# Altium footprint library PCB - POWER INDUCTORS - WURTH WE-PD 1210.PcbLib: 1 footprints
Each footprint in its own frame and in the unit in brackets; x right, y up, seen from the top. Pads: shape width x height; smd on the part's side, far side on the other; paste and mask are expansions set on the pad; w line width, h text height; cw(c..) or ccw(c..) is an arc to the next point about the centre after c.
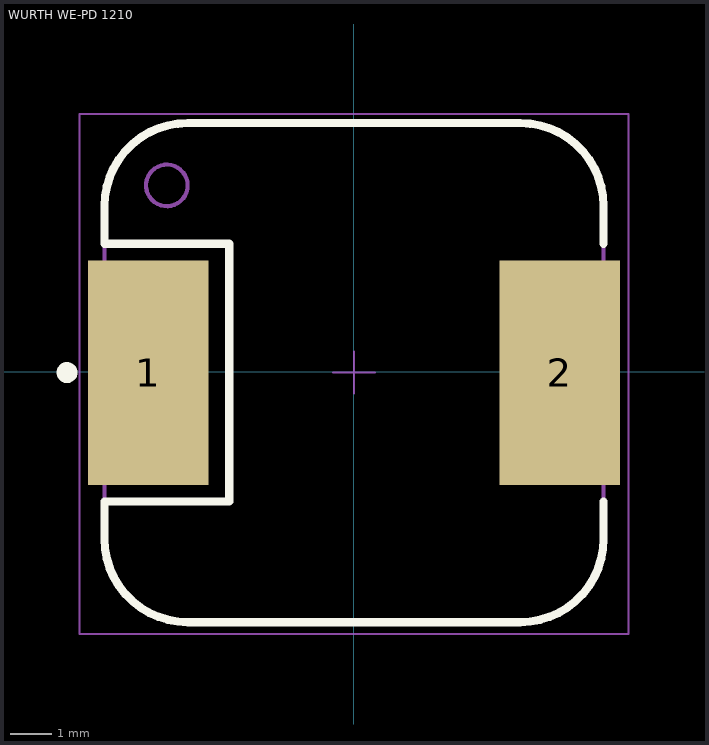
[diagram p0: the footprint, top view; thin cyan lines are the x and y axes]

## WURTH WE-PD 1210 [mm] "SMT Shielded Power Inductor, 2-leads, body 12x12mm"
height 10
pads (2):
  rect 2.9x5.4 smd: 1(-4.95,-0.016) 2(4.95,-0.016)
Top Overlay:
  circle w0.25: c-6.9,-0.016 r0.125
  lines w0.2: 6,-3.116 6,-4.016 cw(c4,-4.016) 4,-6.016 -4,-6.016 cw(c-4,-4.016) -6,-4.016 -6,-3.116 -3,-3.116 -3,3.084 -6,3.084 -6,3.984 cw(c-4,3.984) -4,5.984 4,5.984 cw(c4,3.984) 6,3.984 6,3.084
Top Assembly:
  circle w0.1: c-4.5,4.484 r0.5
  lines w0.05: -0.5,-0.016 0.5,-0.016 ; 0,-0.516 0,0.484
  lines w0.1: -6,-4.016 ccw(c-4,-4.016) -4,-6.016 4,-6.016 ccw(c4,-4.016) 6,-4.016 6,3.984 ccw(c4,3.984) 4,5.984 -4,5.984 ccw(c-4,3.984) -6,3.984 -6,-4.016
  text ".Designator" at -4.5,-0.468 h2
Top Component Outline:
  circle w0.1: c-4.5,4.484 r0.5
  lines w0.1: -6,-4.016 ccw(c-4,-4.016) -4,-6.016 4,-6.016 ccw(c4,-4.016) 6,-4.016 6,3.984 ccw(c4,3.984) 4,5.984 -4,5.984 ccw(c-4,3.984) -6,3.984 -6,-4.016
Top Courtyard:
  lines w0.05: -6.6,-6.3 6.6,-6.3 6.6,6.2 -6.6,6.2 -6.6,-6.3
3D body "WE-PD_1210_m-base_7447709xx.stp": height 9.46, standoff 0, extent -6,-6.016 6,5.984